# Altium footprint library CONECTER.PcbLib: 145 footprints (part 2 of 10)
Each footprint in its own frame and in the unit in brackets; x right, y up, seen from the top. Pads: shape width x height; smd on the part's side, far side on the other; paste and mask are expansions set on the pad; w line width, h text height; cw(c..) or ccw(c..) is an arc to the next point about the centre after c.
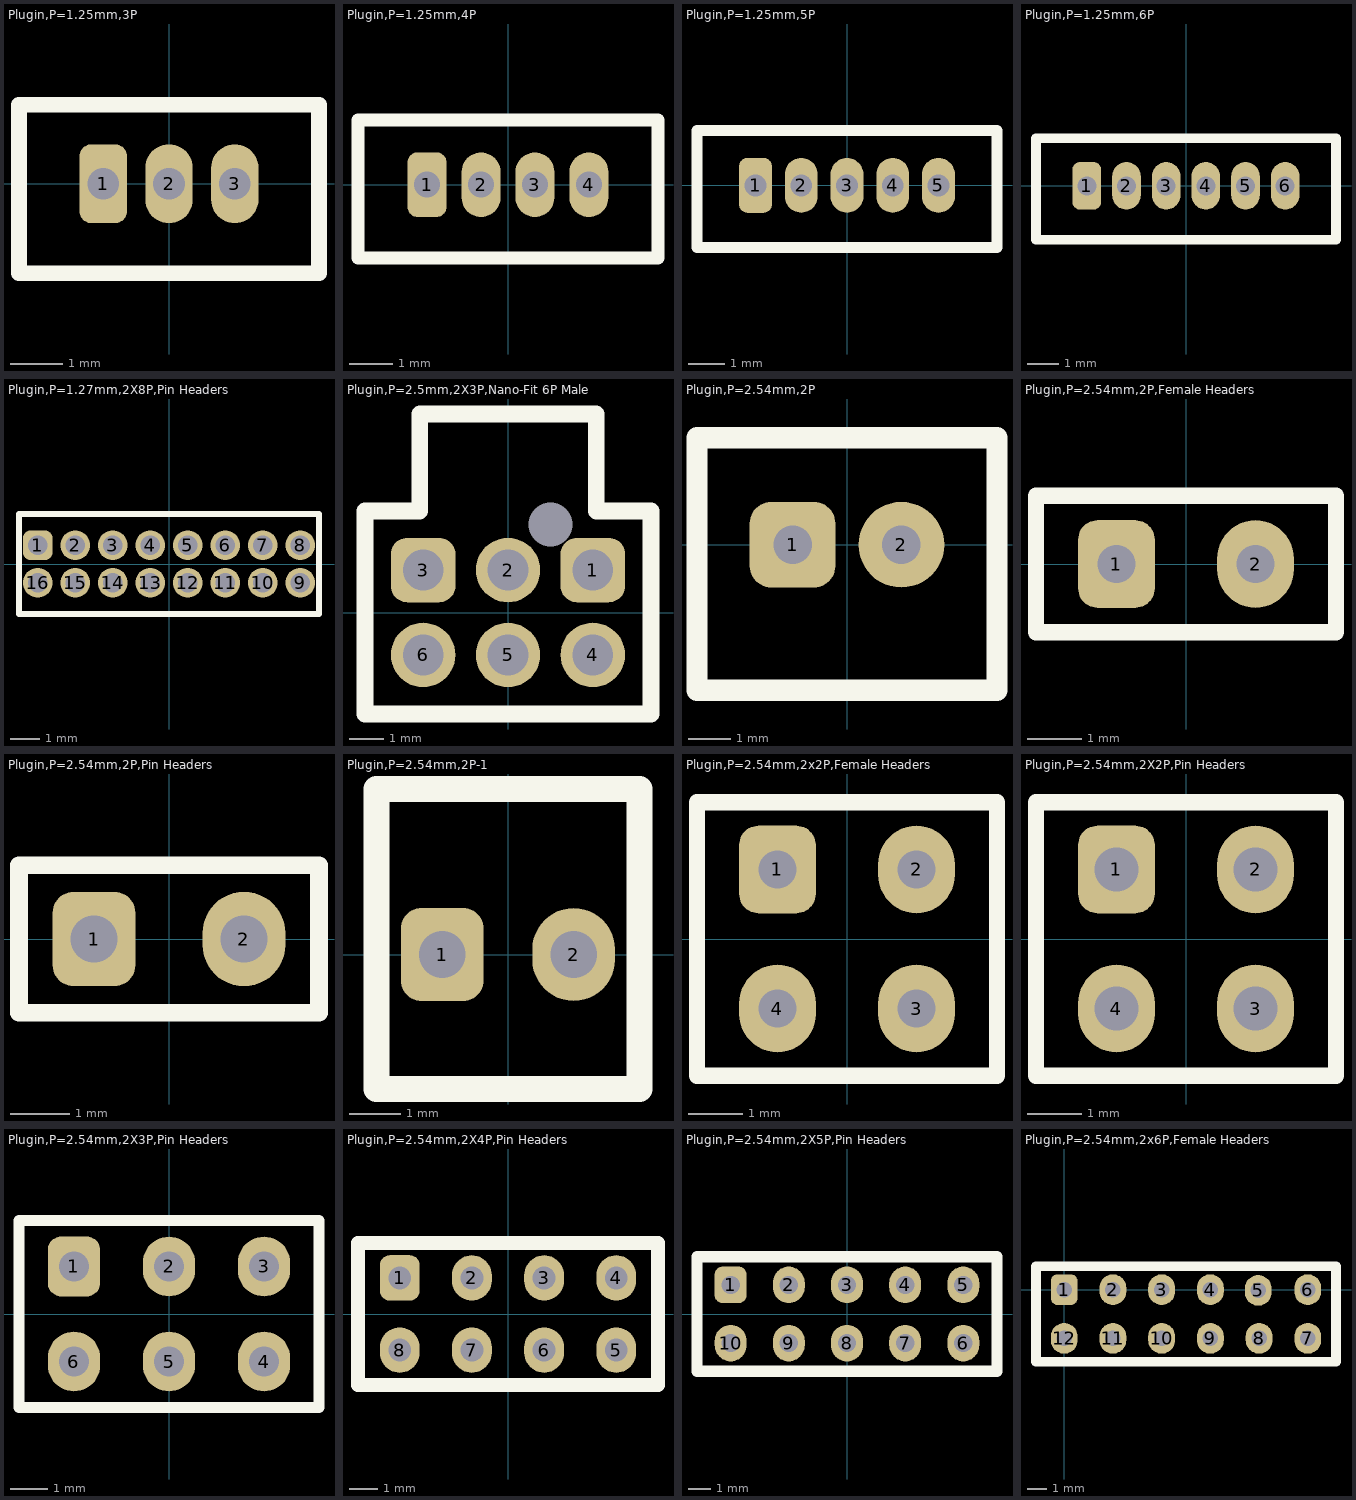
[diagram p1: the footprints below, top view; thin cyan lines are the x and y axes]

## Plugin,P=1.25mm,3P [mm]
pads (3):
  rrect50% 0.9x1.5 hole 0.6: 1(-1.25,0)
  oval 0.9x1.5 hole 0.6: 2(0,0) 3(1.25,0)
Top Overlay:
  lines w0.3: -2.85,-1.7 2.85,-1.7 2.85,1.5 -2.85,1.5 -2.85,-1.7
3D body "2-1734598-3.stp": height 4.75, standoff -2.25, extent -2.75,-1.7 2.75,1.5

## Plugin,P=1.25mm,4P [mm]
pads (4):
  rrect50% 0.9x1.5 hole 0.6: 1(-1.875,0)
  oval 0.9x1.5 hole 0.6: 2(-0.625,0) 3(0.625,0) 4(1.875,0)
Top Overlay:
  lines w0.3: -3.475,-1.7 3.475,-1.7 3.475,1.5 -3.475,1.5 ; -3.471,-1.7 -3.471,1.5
3D body "2-1734598-4.stp": height 4.75, standoff -2.25, extent -3.375,-1.7 3.375,1.5

## Plugin,P=1.25mm,5P [mm]
pads (5):
  rrect50% 0.9x1.5 hole 0.6: 1(-2.5,0)
  oval 0.9x1.5 hole 0.6: 2(-1.25,0) 3(0,0) 4(1.25,0) 5(2.5,0)
Top Overlay:
  lines w0.3: -4.1,-1.7 -4.1,1.5 4.1,1.5 4.1,-1.7 -4.1,-1.7
3D body "2-1734598-5.stp": height 4.75, standoff -2.25, extent -4,-1.7 4,1.5

## Plugin,P=1.25mm,6P [mm]
pads (6):
  rrect50% 0.9x1.5 hole 0.6: 1(-3.125,0)
  oval 0.9x1.5 hole 0.6: 2(-1.875,0) 3(-0.625,0) 4(0.625,0) 5(1.875,0) 6(3.125,0)
Top Overlay:
  lines w0.3: -4.725,-1.7 4.725,-1.7 4.725,1.5 -4.725,1.5 -4.725,-1.7
3D body "1734598-6.stp": height 4.75, standoff -1.65, extent -4.625,-1.7 4.625,1.5

## Plugin,P=1.27mm,2X8P,Pin Headers [mm]
pads (16):
  rrect50% 1x1 hole 0.65 mask+0.15: 1(-4.445,0.635)
  round 1 hole 0.65 mask+0.15: 2(-3.175,0.635) 3(-1.905,0.635) 4(-0.635,0.635) 5(0.635,0.635) 6(1.905,0.635) 7(3.175,0.635) 8(4.445,0.635) 9(4.445,-0.635) 10(3.175,-0.635) 11(1.905,-0.635) 12(0.635,-0.635) 13(-0.635,-0.635) 14(-1.905,-0.635) 15(-3.175,-0.635) 16(-4.445,-0.635)
Top Overlay:
  lines w0.2: -5.08,-1.7 -5.08,1.7 5.08,1.7 5.08,-1.7 -5.08,-1.7
3D body "62201621121+%28rev1%29.stp": height 5.3, standoff -2.3, extent -5.08,-1.7 5.08,1.7

## Plugin,P=2.5mm,2X3P,Nano-Fit 6P Male [mm]
pads (7):
  rrect50% 1.9x1.9 hole 1.2 mask+0.15: 1(2.5,1.25) 3(-2.5,1.25)
  round 1.9 hole 1.2 mask+0.15: 2(0,1.25) 4(2.5,-1.25) 5(0,-1.25) 6(-2.5,-1.25)
  round 1.25 hole 1.3: ""(1.25,2.59)
Top Overlay:
  lines w0.5: -2.688,2.99 -2.6,3.078 -2.6,5.85 2.6,5.85 2.6,3.005 2.615,2.99 ; -2.6,2.99 -4.22,2.99 -4.22,-2.99 4.22,-2.99 4.22,2.99 2.6,2.99
3D body "1053101206.stp": height 10.53, standoff -3.18, extent -4.22,-2.99 4.22,5.85

## Plugin,P=2.54mm,2P [mm]
pads (2):
  rrect50% 2x2 hole 0.9 mask+0.1: 1(-1.27,0)
  round 2 hole 0.9 mask+0.1: 2(1.27,0)
Top Overlay:
  lines w0.5: -3.5,-3.4 3.5,-3.4 3.5,2.5 -3.5,2.5 -3.5,-3.4
3D body "JST 2pin.stp": height 3.05, standoff -7.25, extent -3.715,-3.4 3.715,2.328

## Plugin,P=2.54mm,2P,Female Headers [mm]
pads (2):
  rrect50% 1.4x1.6 hole 0.7: 1(-1.27,0)
  oval 1.4x1.6 hole 0.7: 2(1.27,0)
Top Overlay:
  lines w0.3: -2.74,-1.25 -2.74,1.25 2.74,1.25 2.74,-1.25 -2.74,-1.25
3D body "FH01-02SS.stp": height 8.5, standoff -3.2, extent -2.54,-1.25 2.54,1.25

## Plugin,P=2.54mm,2P,Pin Headers [mm]
pads (2):
  rrect50% 1.4x1.6 hole 0.8: 1(-1.27,0)
  oval 1.4x1.6 hole 0.8: 2(1.27,0)
Top Overlay:
  lines w0.3: -2.54,-1.25 -2.54,1.25 2.54,1.25 2.54,-1.25 -2.54,-1.25
3D body "2-Pin Header - Male - 2.54mm.step": height 8.89, standoff -3.05, extent -2.54,-1.25 2.54,1.29

## Plugin,P=2.54mm,2P-1 [mm]
pads (2):
  rrect50% 1.6x1.8 hole 0.9: 1(-1.27,0)
  oval 1.6x1.8 hole 0.9: 2(1.27,0)
Top Overlay:
  lines w0.5: -2.54,-2.6 2.54,-2.6 2.54,3.2 -2.54,3.2 -2.54,-2.6
3D body "640456-2.STEP": height 10.03, standoff -3.94, extent -2.54,-2.54 2.54,3.175

## Plugin,P=2.54mm,2x2P,Female Headers [mm]
pads (4):
  rrect50% 1.4x1.6 hole 0.7 mask+0.15: 1(-1.27,1.27)
  oval 1.4x1.6 hole 0.7 mask+0.15: 2(1.27,1.27) 3(1.27,-1.27) 4(-1.27,-1.27)
Top Overlay:
  lines w0.3: -2.74,-2.5 2.74,-2.5 2.74,2.5 -2.74,2.5 -2.74,-2.5
3D body "4-Pin Header - Female - Double - 2.54mm.step": height 8.5, standoff -3, extent -2.79,-2.48 2.79,2.52

## Plugin,P=2.54mm,2X2P,Pin Headers [mm]
pads (4):
  rrect50% 1.4x1.6 hole 0.8 mask+0.15: 1(-1.27,1.27)
  oval 1.4x1.6 hole 0.8 mask+0.15: 2(1.27,1.27) 3(1.27,-1.27) 4(-1.27,-1.27)
Top Overlay:
  lines w0.3: -2.74,-2.5 2.74,-2.5 2.74,2.5 -2.74,2.5 -2.74,-2.5
3D body "4-Pin Header - Male - Double - 2.54mm.step": height 8.89, standoff -3.05, extent -2.54,-2.54 2.54,2.54

## Plugin,P=2.54mm,2X3P,Pin Headers [mm]
pads (6):
  rrect50% 1.4x1.6 hole 0.8 mask+0.15: 1(-2.54,1.27)
  oval 1.4x1.6 hole 0.8 mask+0.15: 2(0,1.27) 3(2.54,1.27) 4(2.54,-1.27) 5(0,-1.27) 6(-2.54,-1.27)
Top Overlay:
  lines w0.3: -4.01,-2.5 -4.01,2.5 4.01,2.5 4.01,-2.5 -4.01,-2.5
3D body "6-Pin Header - Male - Double - 2.54mm.step": height 8.89, standoff -3.05, extent -3.81,-2.54 3.81,2.54

## Plugin,P=2.54mm,2X4P,Pin Headers [mm]
pads (8):
  rrect50% 1.4x1.6 hole 0.8 mask+0.15: 1(-3.81,1.27)
  oval 1.4x1.6 hole 0.8 mask+0.15: 2(-1.27,1.27) 3(1.27,1.27) 4(3.81,1.27) 5(3.81,-1.27) 6(1.27,-1.27) 7(-1.27,-1.27) 8(-3.81,-1.27)
Top Overlay:
  lines w0.5: -5.28,-2.5 5.28,-2.5 5.28,2.5 -5.28,2.5 -5.28,-2.5
3D body "8-Pin Header - Male - Double - 2.54mm.step": height 8.89, standoff -3.05, extent -5.08,-2.54 5.08,2.54

## Plugin,P=2.54mm,2X5P,Pin Headers [mm]
pads (10):
  rrect50% 1.4x1.6 hole 0.8 mask+0.15: 1(-5.08,1.27)
  oval 1.4x1.6 hole 0.8 mask+0.15: 2(-2.54,1.27) 3(0,1.27) 4(2.54,1.27) 5(5.08,1.27) 6(5.08,-1.27) 7(2.54,-1.27) 8(0,-1.27) 9(-2.54,-1.27) 10(-5.08,-1.27)
Top Overlay:
  lines w0.5: -6.55,-2.5 -6.55,2.5 6.55,2.5 6.55,-2.5 -6.55,-2.5
3D body "10-Pin Header - Male - Double - 2.54mm.step": height 8.89, standoff -3.05, extent -6.35,-2.54 6.35,2.54

## Plugin,P=2.54mm,2x6P,Female Headers [mm]
pads (12):
  rrect50% 1.4x1.6 hole 0.8 mask+0.15: 1(0,0)
  oval 1.4x1.6 hole 0.8 mask+0.15: 2(2.54,0) 3(5.08,0) 4(7.62,0) 5(10.114,-0.039) 6(12.7,0) 7(12.7,-2.54) 8(10.16,-2.54) 9(7.62,-2.54) 10(5.08,-2.54) 11(2.54,-2.54) 12(0,-2.54)
Top Overlay:
  lines w0.5: -1.47,-3.77 -1.47,1.23 14.17,1.23 14.17,-3.77 -1.47,-3.77
3D body "12-Pin Header - Female - Double - 2.54mm.step": height 8.5, standoff -3, extent -1.52,-3.77 14.22,1.23